# Altium schematic symbol library 100068622_payload_detect.SchLib: 5 symbols
Pins are listed as number, name and electrical type; pins without a type are passive.

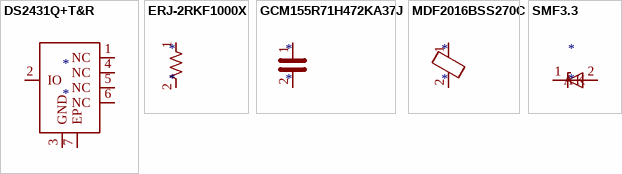
[diagram p0: symbols DS2431Q+T&R to SMF3.3]

## DS2431Q+T&R
designator *
pins: 1 NC, 2 IO, 3 GND, 4 NC, 5 NC, 6 NC, 7 EP

## ERJ-2RKF1000X
designator *
pins: 1, 2

## GCM155R71H472KA37J
designator *
pins: 1, 2

## MDF2016BSS270C
designator *
pins: 1, 2

## SMF3.3
designator *
pins: 1 K, 2 A